# Altium integrated library HyTechDevices.Library.IntLib: 384 symbols (part 3 of 4)
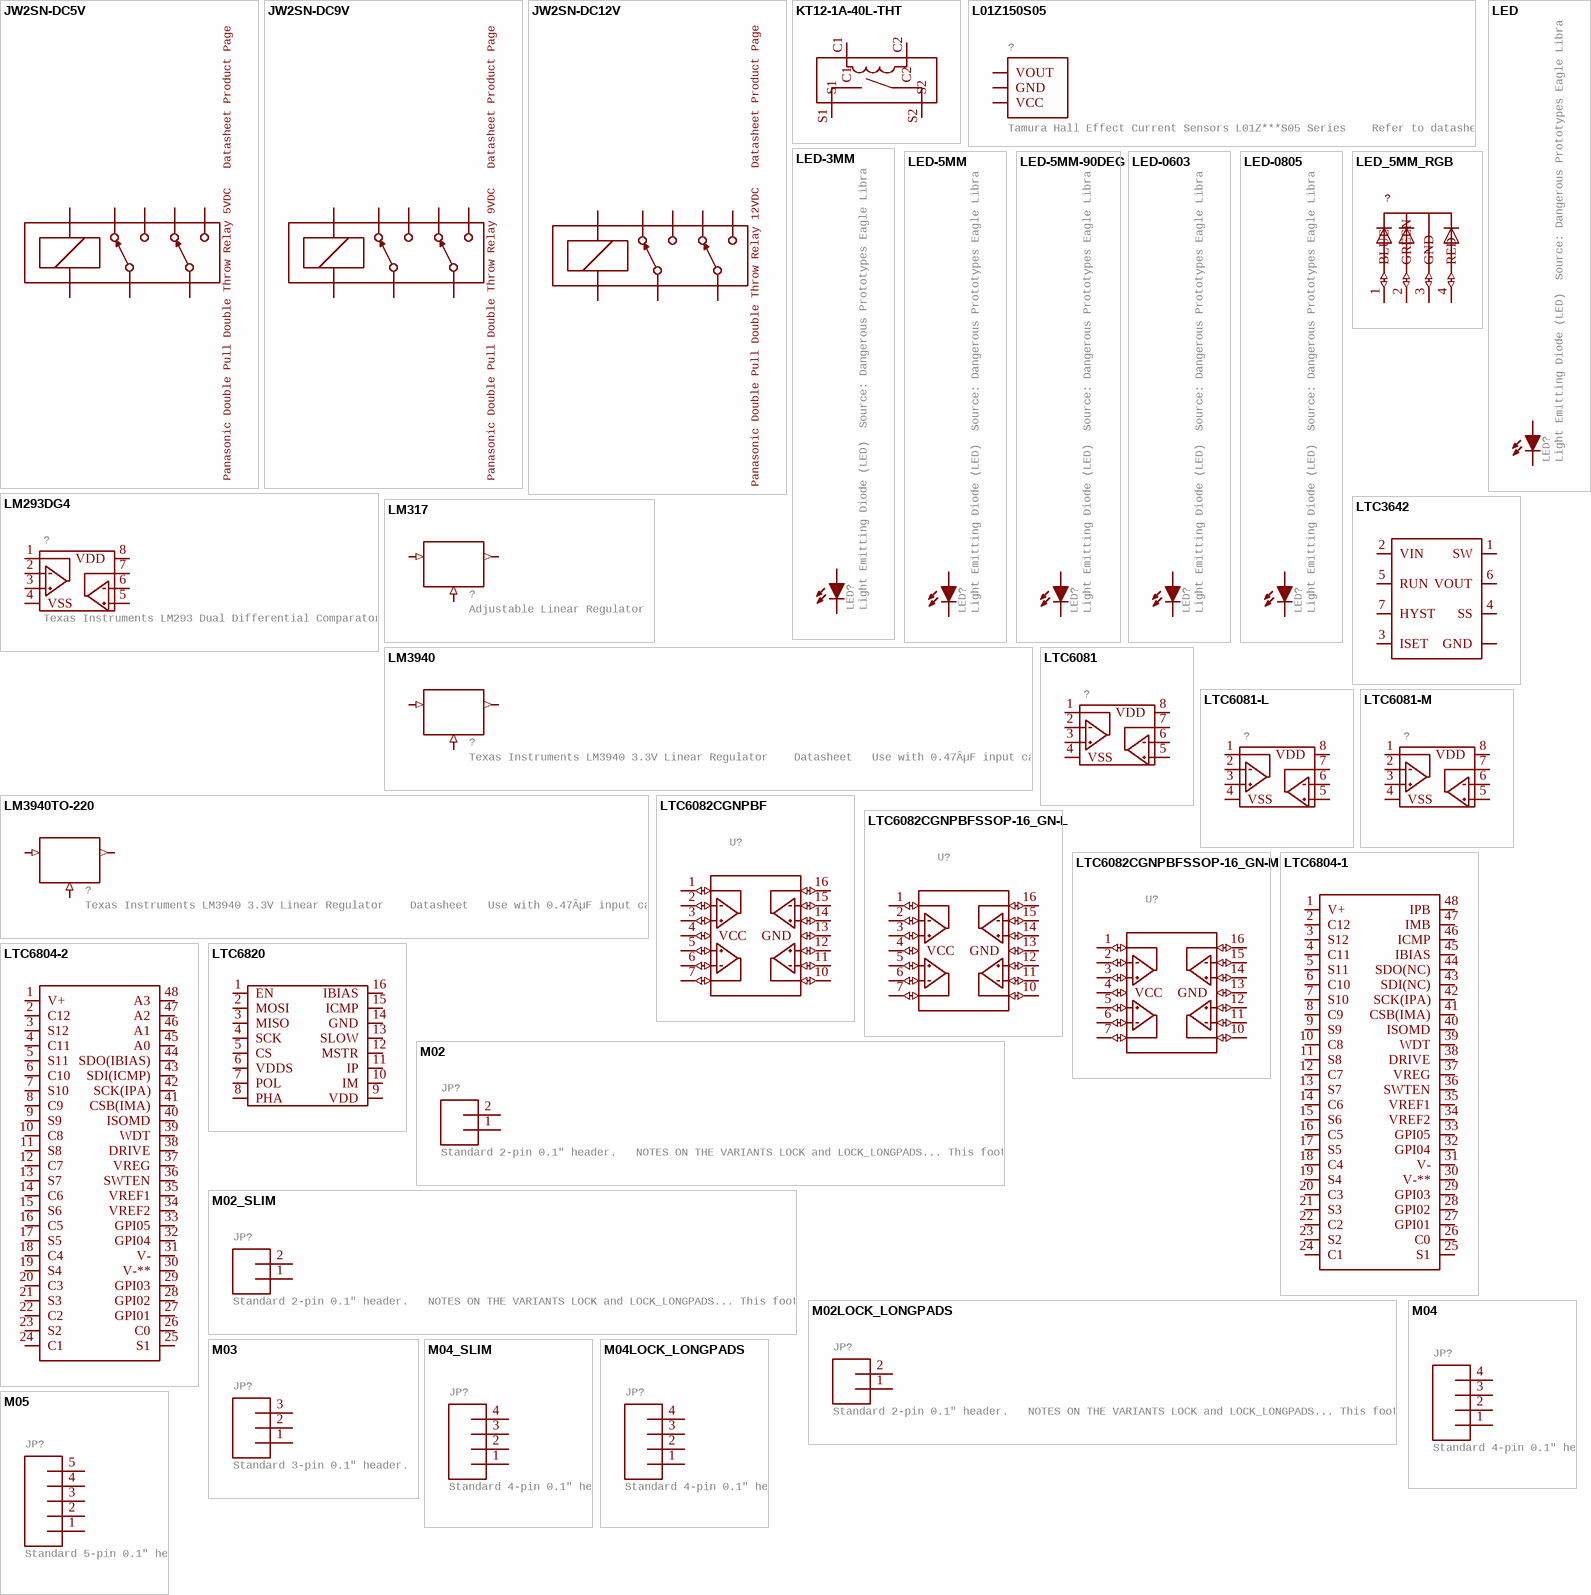
[diagram p23: symbols JW2SN-DC5V to M05]

## LED-0603
designator LED?, comment Light Emitting Diode (LED)  Source: Dangerous Prototypes Eagle Library
DeviceName: -0603; GateName_1: LED; SymbolName_1: LED; LibraryName: HyTechDevices; DeviceSetName: LED; Package: LED-603
footprint LED-603
pins: A, C

## LED-0805
designator LED?, comment Light Emitting Diode (LED)  Source: Dangerous Prototypes Eagle Library
DeviceName: -0805; GateName_1: LED; SymbolName_1: LED; LibraryName: HyTechDevices; DeviceSetName: LED; Package: LED-805
footprint LED-805
pins: A, C

## LED_5MM_RGB
designator ?, comment Source: Adafruit  (value not drawn)
GateName_1: G$1; SymbolName_1: LED_RGB; DeviceSetName: LED_5MM_RGB; LibraryName: HyTechDevices; Package: LED_5MM_RGB
footprint LED_5MM_RGB
pins: 1 BLUE (io), 2 GREEN (io), 3 GND (io), 4 RED (io)

## LM293DG4
designator ?, comment Texas Instruments LM293 Dual Differential Comparator
GateName_1: G$1; SymbolName_1: OPAMP_2_CHANNEL; DeviceName: DG4; LibraryName: HyTechDevices; DeviceSetName: LM293; Package: SOIC-08
footprint SOIC-08
pins: 1 VOUTA, 2 VINA-, 3 VINA+, 4 VSS, 5 VINB+, 6 VINB-, 7 VOUTB, 8 VDD

## LM317
designator ?, comment Adjustable Linear Regulator
GateName_1: G$1; SymbolName_1: LM317; LibraryName: HyTechDevices; DeviceSetName: LM317; Package: TO-220
footprint TO-220
pins: 1 ADJ (in), 2 OUT (out), 3 IN (in)

## LM3940
designator ?, comment Texas Instruments LM3940 3.3V Linear Regulator    Datasheet   Use with 0.47ÂµF input capacitor and 33ÂµF output capacitor.
GateName_1: G$1; SymbolName_1: VOLTAGE_REGULATOR; LibraryName: HyTechDevices; DeviceSetName: LM3940; Package: SOT223
footprint SOT223
pins: 1 IN (in), 2 4 GND (in), 3 OUT (out)

## LM3940TO-220
designator ?, comment Texas Instruments LM3940 3.3V Linear Regulator    Datasheet   Use with 0.47ÂµF input capacitor and 33ÂµF output capacitor.
GateName_1: G$1; SymbolName_1: VOLTAGE_REGULATOR; DeviceName: TO-220; LibraryName: HyTechDevices; DeviceSetName: LM3940; Package: TO-220
footprint TO-220
pins: 1 IN (in), 2 GND (in), 3 OUT (out)

## LTC3642
designator ?, comment Linear Technology High Efficiency Step-Down Converter  Input Voltage Range: 4.5V - 45V  Output Voltage: 5V (fixed)  Output Current: 50 mA (max)  Datasheet  (value not drawn)
GateName_1: G$1; SymbolName_1: LTC3642; LibraryName: HyTechDevices; DeviceSetName: LTC3642; Package: MS8E
footprint MS8E
pins: 1 SW (io), 2 VIN (io), 3 ISET (io), 4 SS (io), 5 RUN (io), 6 VOUT (io), 7 HYST (io), 8 PAD GND (io)

## LTC6081
designator ?
GateName_1: G$1; SymbolName_1: OPAMP_2_CHANNEL; DeviceSetName: LTC6081; LibraryName: HyTechDevices; Package: MSOP-8_MS
footprint MSOP-8_MS
pins: 1 VOUTA, 2 VINA-, 3 VINA+, 4 VSS, 5 VINB+, 6 VINB-, 7 VOUTB, 8 VDD

## LTC6081-L
designator ?
GateName_1: G$1; SymbolName_1: OPAMP_2_CHANNEL; DeviceName: -L; DeviceSetName: LTC6081; LibraryName: HyTechDevices; Package: MSOP-8_MS-L
footprint MSOP-8_MS-L
pins: 1 VOUTA, 2 VINA-, 3 VINA+, 4 VSS, 5 VINB+, 6 VINB-, 7 VOUTB, 8 VDD

## LTC6081-M
designator ?
GateName_1: G$1; SymbolName_1: OPAMP_2_CHANNEL; DeviceName: -M; DeviceSetName: LTC6081; LibraryName: HyTechDevices; Package: MSOP-8_MS-M
footprint MSOP-8_MS-M
pins: 1 VOUTA, 2 VINA-, 3 VINA+, 4 VSS, 5 VINB+, 6 VINB-, 7 VOUTB, 8 VDD

## LTC6082CGNPBF
designator U?
MANUFACTURER_PART_NUMBER: LTC6082CGN#PBF; GateName_1: G$1; SymbolName_1: LTC6082; DeviceSetName: LTC6082CGNPBF; VENDOR: Linear Technology; LibraryName: HyTechDevices; Package: SSOP-16_GN
footprint SSOP-16_GN
pins: 1 OUTA (io), 2 -INA (io), 3 +INA (io), 4 VCC (io), 5 +INB (io), 6 -INB (io), 7 OUTB (io), 10 OUTC (io), 11 -INC (io), 12 +INC (io), 13 GND (io), 14 +IND (io), 15 -IND (io), 16 OUTD (io)

## LTC6082CGNPBFSSOP-16_GN-L
designator U?
MANUFACTURER_PART_NUMBER: LTC6082CGN#PBF; GateName_1: G$1; SymbolName_1: LTC6082; DeviceName: SSOP-16_GN-L; DeviceSetName: LTC6082CGNPBF; VENDOR: Linear Technology; LibraryName: HyTechDevices; Package: SSOP-16_GN-L
footprint SSOP-16_GN-L
pins: 1 OUTA (io), 2 -INA (io), 3 +INA (io), 4 VCC (io), 5 +INB (io), 6 -INB (io), 7 OUTB (io), 10 OUTC (io), 11 -INC (io), 12 +INC (io), 13 GND (io), 14 +IND (io), 15 -IND (io), 16 OUTD (io)

## LTC6082CGNPBFSSOP-16_GN-M
designator U?
MANUFACTURER_PART_NUMBER: LTC6082CGN#PBF; GateName_1: G$1; SymbolName_1: LTC6082; DeviceName: SSOP-16_GN-M; DeviceSetName: LTC6082CGNPBF; VENDOR: Linear Technology; LibraryName: HyTechDevices; Package: SSOP-16_GN-M
footprint SSOP-16_GN-M
pins: 1 OUTA (io), 2 -INA (io), 3 +INA (io), 4 VCC (io), 5 +INB (io), 6 -INB (io), 7 OUTB (io), 10 OUTC (io), 11 -INC (io), 12 +INC (io), 13 GND (io), 14 +IND (io), 15 -IND (io), 16 OUTD (io)

## LTC6804-1
designator ?
GateName_1: G$1; SymbolName_1: LTC6804-1; LibraryName: HyTechDevices; DeviceSetName: LTC6804-1; Package: LTC6804
footprint LTC6804
pins: 1 V+ (io), 2 C12 (io), 3 S12 (io), 4 C11 (io), 5 S11 (io), 6 C10 (io), 7 S10 (io), 8 C9 (io), 9 S9 (io), 10 C8 (io), 11 S8 (io), 12 C7 (io), 13 S7 (io), 14 C6 (io), 15 S6 (io), 16 C5 (io), 17 S5 (io), 18 C4 (io), 19 S4 (io), 20 C3 (io), 21 S3 (io), 22 C2 (io), 23 S2 (io), 24 C1 (io), 25 S1 (io), 26 C0 (io), 27 GPI01 (io), 28 GPI02 (io), 29 GPI03 (io), 30 V-** (io), 31 V- (io), 32 GPI04 (io), 33 GPI05 (io), 34 VREF2 (io), 35 VREF1 (io), 36 SWTEN (io), 37 VREG (io), 38 DRIVE (io), 39 WDT (io), 40 ISOMD (io), 41 CSB(IMA) (io), 42 SCK(IPA) (io), 43 SDI(NC) (io), 44 SDO(NC) (io), 45 IBIAS (io), 46 ICMP (io), 47 IMB (io), 48 IPB (io)

## LTC6804-2
designator ?, comment Linear Technology Multicell Battery Stack Monitor  Variant 2: Addressable/Multi-Drop Configuration  Datasheet  (value not drawn)
GateName_1: G$1; SymbolName_1: LTC6804-2; LibraryName: HyTechDevices; DeviceSetName: LTC6804-2; Package: LTC6804
footprint LTC6804
pins: 1 V+ (io), 2 C12 (io), 3 S12 (io), 4 C11 (io), 5 S11 (io), 6 C10 (io), 7 S10 (io), 8 C9 (io), 9 S9 (io), 10 C8 (io), 11 S8 (io), 12 C7 (io), 13 S7 (io), 14 C6 (io), 15 S6 (io), 16 C5 (io), 17 S5 (io), 18 C4 (io), 19 S4 (io), 20 C3 (io), 21 S3 (io), 22 C2 (io), 23 S2 (io), 24 C1 (io), 25 S1 (io), 26 C0 (io), 27 GPI01 (io), 28 GPI02 (io), 29 GPI03 (io), 30 V-** (io), 31 V- (io), 32 GPI04 (io), 33 GPI05 (io), 34 VREF2 (io), 35 VREF1 (io), 36 SWTEN (io), 37 VREG (io), 38 DRIVE (io), 39 WDT (io), 40 ISOMD (io), 41 CSB(IMA) (io), 42 SCK(IPA) (io), 43 SDI(ICMP) (io), 44 SDO(IBIAS) (io), 45 A0 (io), 46 A1 (io), 47 A2 (io), 48 A3 (io)

## LTC6820
designator ?, comment Linear Technology isoSPI Isolated Communications Interface  Datasheet  (value not drawn)
GateName_1: G$1; SymbolName_1: LTC6820; LibraryName: HyTechDevices; DeviceSetName: LTC6820; Package: MSOP-16
footprint MSOP-16
pins: 1 EN (io), 2 MOSI (io), 3 MISO (io), 4 SCK (io), 5 CS (io), 6 VDDS (io), 7 POL (io), 8 PHA (io), 9 VDD (io), 10 IM (io), 11 IP (io), 12 MSTR (io), 13 SLOW (io), 14 GND (io), 15 ICMP (io), 16 IBIAS (io)

## M02
designator JP?, comment Standard 2-pin 0.1" header.   NOTES ON THE VARIANTS LOCK and LOCK_LONGPADS... This footprint was designed to help hold the alignment of a through-hole component (i.e.  6-pin header) while soldering it into place. You may notice that each hole has been shifted either up or down by 0.005 of an inch from it's more standard position (which is a perfectly straight line).  This slight alteration caused the pins (the squares in the middle) to touch the edges of the holes.  Because they are alternating, it causes a "brace" to hold the component in place.  0.005 has proven to be the perfect amount of "off-center" position when using our standard breakaway headers. Although looks a little odd when you look at the bare footprint, once you have a header in there, the alteration is very hard to notice.  Also,if you push a header all the way into place, it is covered up entirely on the bottom side.  This idea of altering the position of holes to aid alignment will be further integrated into the Sparkfun Library for other footprints.  It can help hold any component with 3 or more connection pins.   Note: The Sparkfun version includes many other packages including surface mount that may be of future interest.   Source: Sparkfun
GateName_1: G$1; SymbolName_1: M02; LibraryName: HyTechDevices; DeviceSetName: M02; Package: 1X02
footprint 1X02
pins: 1, 2

## M02_SLIM
designator JP?, comment Standard 2-pin 0.1" header.   NOTES ON THE VARIANTS LOCK and LOCK_LONGPADS... This footprint was designed to help hold the alignment of a through-hole component (i.e.  6-pin header) while soldering it into place. You may notice that each hole has been shifted either up or down by 0.005 of an inch from it's more standard position (which is a perfectly straight line).  This slight alteration caused the pins (the squares in the middle) to touch the edges of the holes.  Because they are alternating, it causes a "brace" to hold the component in place.  0.005 has proven to be the perfect amount of "off-center" position when using our standard breakaway headers. Although looks a little odd when you look at the bare footprint, once you have a header in there, the alteration is very hard to notice.  Also,if you push a header all the way into place, it is covered up entirely on the bottom side.  This idea of altering the position of holes to aid alignment will be further integrated into the Sparkfun Library for other footprints.  It can help hold any component with 3 or more connection pins.   Note: The Sparkfun version includes many other packages including surface mount that may be of future interest.   Source: Sparkfun
GateName_1: G$1; SymbolName_1: M02; DeviceName: _SLIM; LibraryName: HyTechDevices; DeviceSetName: M02; Package: 1X02_SLIM
footprint 1X02_SLIM
pins: 1, 2

## M02LOCK_LONGPADS
designator JP?, comment Standard 2-pin 0.1" header.   NOTES ON THE VARIANTS LOCK and LOCK_LONGPADS... This footprint was designed to help hold the alignment of a through-hole component (i.e.  6-pin header) while soldering it into place. You may notice that each hole has been shifted either up or down by 0.005 of an inch from it's more standard position (which is a perfectly straight line).  This slight alteration caused the pins (the squares in the middle) to touch the edges of the holes.  Because they are alternating, it causes a "brace" to hold the component in place.  0.005 has proven to be the perfect amount of "off-center" position when using our standard breakaway headers. Although looks a little odd when you look at the bare footprint, once you have a header in there, the alteration is very hard to notice.  Also,if you push a header all the way into place, it is covered up entirely on the bottom side.  This idea of altering the position of holes to aid alignment will be further integrated into the Sparkfun Library for other footprints.  It can help hold any component with 3 or more connection pins.   Note: The Sparkfun version includes many other packages including surface mount that may be of future interest.   Source: Sparkfun
GateName_1: G$1; SymbolName_1: M02; DeviceName: LOCK_LONGPADS; LibraryName: HyTechDevices; DeviceSetName: M02; Package: 1X02_LOCK_LONGPADS
footprint 1X02_LOCK_LONGPADS
pins: 1, 2

## M03
designator JP?, comment Standard 3-pin 0.1" header.
GateName_1: G$1; SymbolName_1: M03; LibraryName: HyTechDevices; DeviceSetName: M03; Package: 1X03
footprint 1X03
pins: 1, 2, 3

## M04
designator JP?, comment Standard 4-pin 0.1" header.   NOTES ON THE VARIANTS LOCK and LOCK_LONGPADS... This footprint was designed to help hold the alignment of a through-hole component (i.e.  6-pin header) while soldering it into place. You may notice that each hole has been shifted either up or down by 0.005 of an inch from it's more standard position (which is a perfectly straight line).  This slight alteration caused the pins (the squares in the middle) to touch the edges of the holes.  Because they are alternating, it causes a "brace" to hold the component in place.  0.005 has proven to be the perfect amount of "off-center" position when using our standard breakaway headers. Although looks a little odd when you look at the bare footprint, once you have a header in there, the alteration is very hard to notice.  Also,if you push a header all the way into place, it is covered up entirely on the bottom side.  This idea of altering the position of holes to aid alignment will be further integrated into the Sparkfun Library for other footprints.  It can help hold any component with 3 or more connection pins.   Note: The Sparkfun version includes many other packages including surface mount that may be of future interest.   Source: Sparkfun
GateName_1: G$1; SymbolName_1: M04; LibraryName: HyTechDevices; DeviceSetName: M04; Package: 1X04
footprint 1X04
pins: 1, 2, 3, 4

## M04_SLIM
designator JP?, comment Standard 4-pin 0.1" header.   NOTES ON THE VARIANTS LOCK and LOCK_LONGPADS... This footprint was designed to help hold the alignment of a through-hole component (i.e.  6-pin header) while soldering it into place. You may notice that each hole has been shifted either up or down by 0.005 of an inch from it's more standard position (which is a perfectly straight line).  This slight alteration caused the pins (the squares in the middle) to touch the edges of the holes.  Because they are alternating, it causes a "brace" to hold the component in place.  0.005 has proven to be the perfect amount of "off-center" position when using our standard breakaway headers. Although looks a little odd when you look at the bare footprint, once you have a header in there, the alteration is very hard to notice.  Also,if you push a header all the way into place, it is covered up entirely on the bottom side.  This idea of altering the position of holes to aid alignment will be further integrated into the Sparkfun Library for other footprints.  It can help hold any component with 3 or more connection pins.   Note: The Sparkfun version includes many other packages including surface mount that may be of future interest.   Source: Sparkfun
GateName_1: G$1; SymbolName_1: M04; DeviceName: _SLIM; LibraryName: HyTechDevices; DeviceSetName: M04; Package: 1X04_SLIM
footprint 1X04_SLIM
pins: 1, 2, 3, 4

## M04LOCK_LONGPADS
designator JP?, comment Standard 4-pin 0.1" header.   NOTES ON THE VARIANTS LOCK and LOCK_LONGPADS... This footprint was designed to help hold the alignment of a through-hole component (i.e.  6-pin header) while soldering it into place. You may notice that each hole has been shifted either up or down by 0.005 of an inch from it's more standard position (which is a perfectly straight line).  This slight alteration caused the pins (the squares in the middle) to touch the edges of the holes.  Because they are alternating, it causes a "brace" to hold the component in place.  0.005 has proven to be the perfect amount of "off-center" position when using our standard breakaway headers. Although looks a little odd when you look at the bare footprint, once you have a header in there, the alteration is very hard to notice.  Also,if you push a header all the way into place, it is covered up entirely on the bottom side.  This idea of altering the position of holes to aid alignment will be further integrated into the Sparkfun Library for other footprints.  It can help hold any component with 3 or more connection pins.   Note: The Sparkfun version includes many other packages including surface mount that may be of future interest.   Source: Sparkfun
GateName_1: G$1; SymbolName_1: M04; DeviceName: LOCK_LONGPADS; LibraryName: HyTechDevices; DeviceSetName: M04; Package: 1X04_LOCK_LONGPADS
footprint 1X04_LOCK_LONGPADS
pins: 1, 2, 3, 4

## M05
designator JP?, comment Standard 5-pin 0.1" header.   NOTES ON THE VARIANTS LOCK and LOCK_LONGPADS... This footprint was designed to help hold the alignment of a through-hole component (i.e.  5-pin header) while soldering it into place. You may notice that each hole has been shifted either up or down by 0.005 of an inch from it's more standard position (which is a perfectly straight line).  This slight alteration caused the pins (the squares in the middle) to touch the edges of the holes.  Because they are alternating, it causes a "brace" to hold the component in place.  0.005 has proven to be the perfect amount of "off-center" position when using our standard breakaway headers. Although looks a little odd when you look at the bare footprint, once you have a header in there, the alteration is very hard to notice.  Also,if you push a header all the way into place, it is covered up entirely on the bottom side.  This idea of altering the position of holes to aid alignment will be further integrated into the Sparkfun Library for other footprints.  It can help hold any component with 3 or more connection pins.   Note: The Sparkfun version includes many other packages including surface mount that may be of future interest.   Source: Sparkfun
GateName_1: G$1; SymbolName_1: M05; LibraryName: HyTechDevices; DeviceSetName: M05; Package: 1X05
footprint 1X05
pins: 1, 2, 3, 4, 5

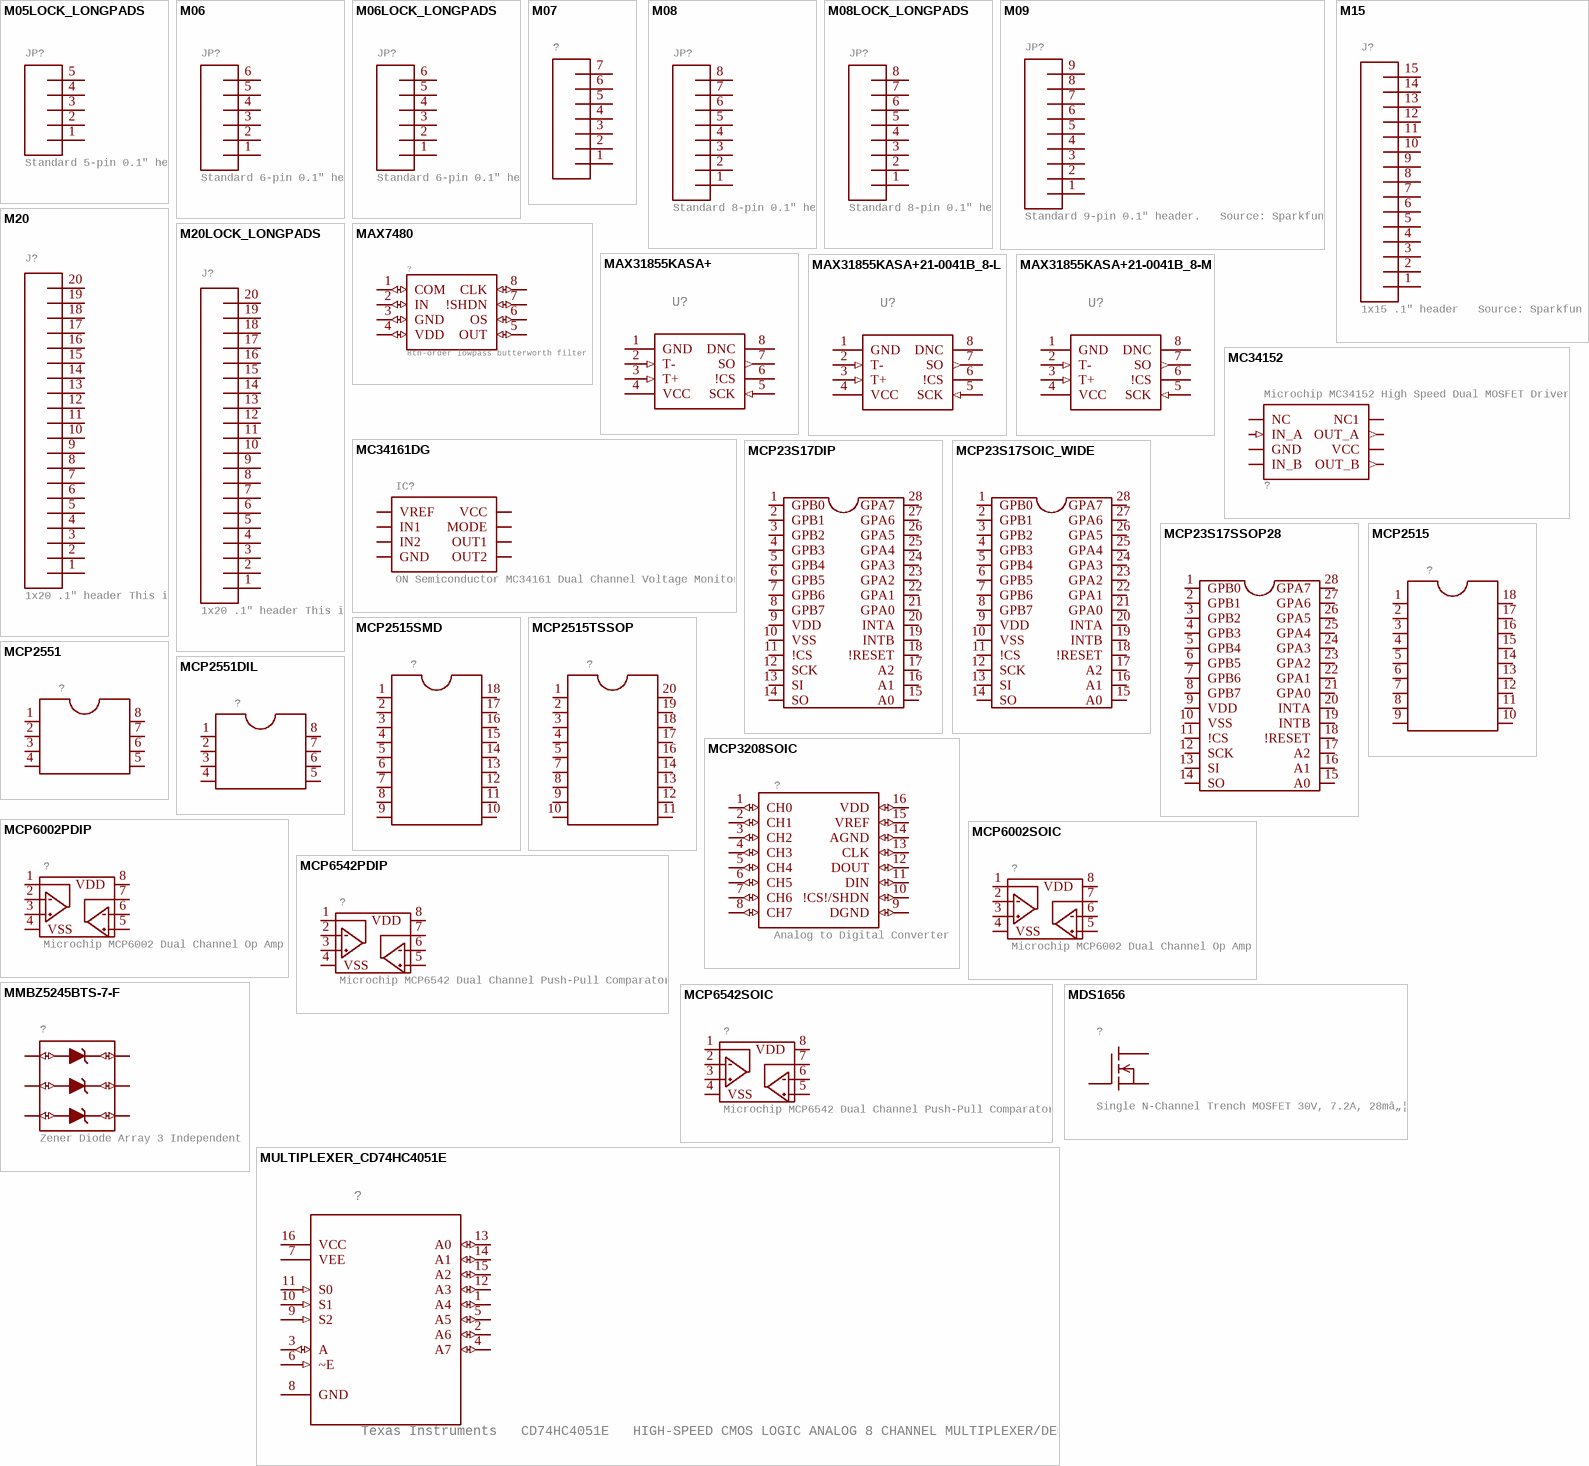
[diagram p17: symbols M05LOCK_LONGPADS to MULTIPLEXER_CD74HC4051E]

## M05LOCK_LONGPADS
designator JP?, comment Standard 5-pin 0.1" header.   NOTES ON THE VARIANTS LOCK and LOCK_LONGPADS... This footprint was designed to help hold the alignment of a through-hole component (i.e.  5-pin header) while soldering it into place. You may notice that each hole has been shifted either up or down by 0.005 of an inch from it's more standard position (which is a perfectly straight line).  This slight alteration caused the pins (the squares in the middle) to touch the edges of the holes.  Because they are alternating, it causes a "brace" to hold the component in place.  0.005 has proven to be the perfect amount of "off-center" position when using our standard breakaway headers. Although looks a little odd when you look at the bare footprint, once you have a header in there, the alteration is very hard to notice.  Also,if you push a header all the way into place, it is covered up entirely on the bottom side.  This idea of altering the position of holes to aid alignment will be further integrated into the Sparkfun Library for other footprints.  It can help hold any component with 3 or more connection pins.   Note: The Sparkfun version includes many other packages including surface mount that may be of future interest.   Source: Sparkfun
GateName_1: G$1; SymbolName_1: M05; DeviceName: LOCK_LONGPADS; LibraryName: HyTechDevices; DeviceSetName: M05; Package: 1X05_LOCK_LONGPADS
footprint 1X05_LOCK_LONGPADS
pins: 1, 2, 3, 4, 5

## M06
designator JP?, comment Standard 6-pin 0.1" header.   NOTES ON THE VARIANTS LOCK and LOCK_LONGPADS... This footprint was designed to help hold the alignment of a through-hole component (i.e.  6-pin header) while soldering it into place. You may notice that each hole has been shifted either up or down by 0.005 of an inch from it's more standard position (which is a perfectly straight line).  This slight alteration caused the pins (the squares in the middle) to touch the edges of the holes.  Because they are alternating, it causes a "brace" to hold the component in place.  0.005 has proven to be the perfect amount of "off-center" position when using our standard breakaway headers. Although looks a little odd when you look at the bare footprint, once you have a header in there, the alteration is very hard to notice.  Also,if you push a header all the way into place, it is covered up entirely on the bottom side.  This idea of altering the position of holes to aid alignment will be further integrated into the Sparkfun Library for other footprints.  It can help hold any component with 3 or more connection pins.   Note: The Sparkfun version includes many other packages including surface mount that may be of future interest.   Source: Sparkfun
GateName_1: G$1; SymbolName_1: M06; LibraryName: HyTechDevices; DeviceSetName: M06; Package: 1X06
footprint 1X06
pins: 1, 2, 3, 4, 5, 6

## M06LOCK_LONGPADS
designator JP?, comment Standard 6-pin 0.1" header.   NOTES ON THE VARIANTS LOCK and LOCK_LONGPADS... This footprint was designed to help hold the alignment of a through-hole component (i.e.  6-pin header) while soldering it into place. You may notice that each hole has been shifted either up or down by 0.005 of an inch from it's more standard position (which is a perfectly straight line).  This slight alteration caused the pins (the squares in the middle) to touch the edges of the holes.  Because they are alternating, it causes a "brace" to hold the component in place.  0.005 has proven to be the perfect amount of "off-center" position when using our standard breakaway headers. Although looks a little odd when you look at the bare footprint, once you have a header in there, the alteration is very hard to notice.  Also,if you push a header all the way into place, it is covered up entirely on the bottom side.  This idea of altering the position of holes to aid alignment will be further integrated into the Sparkfun Library for other footprints.  It can help hold any component with 3 or more connection pins.   Note: The Sparkfun version includes many other packages including surface mount that may be of future interest.   Source: Sparkfun
GateName_1: G$1; SymbolName_1: M06; DeviceName: LOCK_LONGPADS; LibraryName: HyTechDevices; DeviceSetName: M06; Package: 1X06_LOCK_LONGPADS
footprint 1X06_LOCK_LONGPADS
pins: 1, 2, 3, 4, 5, 6

## M07
designator ?
GateName_1: G$1; SymbolName_1: M07; LibraryName: HyTechDevices; DeviceSetName: M07; Package: 1X07
footprint 1X07
pins: 1, 2, 3, 4, 5, 6, 7

## M08
designator JP?, comment Standard 8-pin 0.1" header.   NOTES ON THE VARIANTS LOCK and LOCK_LONGPADS... This footprint was designed to help hold the alignment of a through-hole component (i.e.  6-pin header) while soldering it into place. You may notice that each hole has been shifted either up or down by 0.005 of an inch from it's more standard position (which is a perfectly straight line).  This slight alteration caused the pins (the squares in the middle) to touch the edges of the holes.  Because they are alternating, it causes a "brace" to hold the component in place.  0.005 has proven to be the perfect amount of "off-center" position when using our standard breakaway headers. Although looks a little odd when you look at the bare footprint, once you have a header in there, the alteration is very hard to notice.  Also,if you push a header all the way into place, it is covered up entirely on the bottom side.  This idea of altering the position of holes to aid alignment will be further integrated into the Sparkfun Library for other footprints.  It can help hold any component with 3 or more connection pins.   Note: The Sparkfun version includes many other packages including surface mount that may be of future interest.   Source: Sparkfun
GateName_1: G$1; SymbolName_1: M08; LibraryName: HyTechDevices; DeviceSetName: M08; Package: 1X08
footprint 1X08
pins: 1, 2, 3, 4, 5, 6, 7, 8

## M08LOCK_LONGPADS
designator JP?, comment Standard 8-pin 0.1" header.   NOTES ON THE VARIANTS LOCK and LOCK_LONGPADS... This footprint was designed to help hold the alignment of a through-hole component (i.e.  6-pin header) while soldering it into place. You may notice that each hole has been shifted either up or down by 0.005 of an inch from it's more standard position (which is a perfectly straight line).  This slight alteration caused the pins (the squares in the middle) to touch the edges of the holes.  Because they are alternating, it causes a "brace" to hold the component in place.  0.005 has proven to be the perfect amount of "off-center" position when using our standard breakaway headers. Although looks a little odd when you look at the bare footprint, once you have a header in there, the alteration is very hard to notice.  Also,if you push a header all the way into place, it is covered up entirely on the bottom side.  This idea of altering the position of holes to aid alignment will be further integrated into the Sparkfun Library for other footprints.  It can help hold any component with 3 or more connection pins.   Note: The Sparkfun version includes many other packages including surface mount that may be of future interest.   Source: Sparkfun
GateName_1: G$1; SymbolName_1: M08; DeviceName: LOCK_LONGPADS; LibraryName: HyTechDevices; DeviceSetName: M08; Package: 1X08_LOCK_LONGPADS
footprint 1X08_LOCK_LONGPADS
pins: 1, 2, 3, 4, 5, 6, 7, 8

## M09
designator JP?, comment Standard 9-pin 0.1" header.   Source: Sparkfun
GateName_1: G$1; SymbolName_1: M09; LibraryName: HyTechDevices; DeviceSetName: M09; Package: 1X09
footprint 1X09
pins: 1, 2, 3, 4, 5, 6, 7, 8, 9

## M15
designator J?, comment 1x15 .1" header   Source: Sparkfun
GateName_1: G$1; SymbolName_1: M15; LibraryName: HyTechDevices; DeviceSetName: M15; Package: 1X15
footprint 1X15
pins: 1, 2, 3, 4, 5, 6, 7, 8, 9, 10, 11, 12, 13, 14, 15

## M20
designator J?, comment 1x20 .1" header This is just like the LOCK variant in that the holes are staggared by 5 mil, but except for the last two holes.  They are not altered from the "standard" footprint layout.  This is used for a special purpose on the layout of our Graphic LCD Backpack.  Make sure you want to use this device before selecting it for you project!   Source: Sparkfun
GateName_1: G$1; SymbolName_1: M20; LibraryName: HyTechDevices; DeviceSetName: M20; Package: 1X20
footprint 1X20
pins: 1, 2, 3, 4, 5, 6, 7, 8, 9, 10, 11, 12, 13, 14, 15, 16, 17, 18, 19, 20

## M20LOCK_LONGPADS
designator J?, comment 1x20 .1" header This is just like the LOCK variant in that the holes are staggared by 5 mil, but except for the last two holes.  They are not altered from the "standard" footprint layout.  This is used for a special purpose on the layout of our Graphic LCD Backpack.  Make sure you want to use this device before selecting it for you project!   Source: Sparkfun
GateName_1: G$1; SymbolName_1: M20; DeviceName: LOCK_LONGPADS; LibraryName: HyTechDevices; DeviceSetName: M20; Package: 1X20_LOCK_LONGPADS
footprint 1X20_LOCK_LONGPADS
pins: 1, 2, 3, 4, 5, 6, 7, 8, 9, 10, 11, 12, 13, 14, 15, 16, 17, 18, 19, 20

## MAX7480
designator ?, comment 8th-order lowpass butterworth filter
GateName_1: G$1; SymbolName_1: MAX7480; LibraryName: HyTechDevices; DeviceSetName: MAX7480; Package: SOIC-08
footprint SOIC-08
pins: 1 COM (io), 2 IN (io), 3 GND (io), 4 VDD (io), 5 OUT (io), 6 OS (io), 7 !SHDN (io), 8 CLK (io)

## MAX31855KASA+
designator U?
GateName_1: A; SymbolName_1: MAX31855KASA+; VENDOR: Maxim Integrated Products; LibraryName: HyTechDevices; DeviceSetName: MAX31855KASA+; Package: 21-0041B_8; MANUFACTURER_PART_NUMBER: MAX31855KASA+
footprint 21-0041B_8
pins: 1 GND (power), 2 T- (in), 3 T+ (in), 4 VCC (power), 5 SCK (in), 6 !CS, 7 SO (out), 8 DNC

## MAX31855KASA+21-0041B_8-L
designator U?
GateName_1: A; SymbolName_1: MAX31855KASA+; DeviceName: 21-0041B_8-L; VENDOR: Maxim Integrated Products; LibraryName: HyTechDevices; DeviceSetName: MAX31855KASA+; Package: 21-0041B_8-L; MANUFACTURER_PART_NUMBER: MAX31855KASA+
footprint 21-0041B_8-L
pins: 1 GND (power), 2 T- (in), 3 T+ (in), 4 VCC (power), 5 SCK (in), 6 !CS, 7 SO (out), 8 DNC

## MAX31855KASA+21-0041B_8-M
designator U?
GateName_1: A; SymbolName_1: MAX31855KASA+; DeviceName: 21-0041B_8-M; VENDOR: Maxim Integrated Products; LibraryName: HyTechDevices; DeviceSetName: MAX31855KASA+; Package: 21-0041B_8-M; MANUFACTURER_PART_NUMBER: MAX31855KASA+
footprint 21-0041B_8-M
pins: 1 GND (power), 2 T- (in), 3 T+ (in), 4 VCC (power), 5 SCK (in), 6 !CS, 7 SO (out), 8 DNC

## MC34152
designator ?, comment Microchip MC34152 High Speed Dual MOSFET Driver
GateName_1: G$1; SymbolName_1: MC34152; LibraryName: HyTechDevices; DeviceSetName: MC34152; Package: SOIC-08
footprint SOIC-08
pins: 1 NC (hiz), 2 IN_A (in), 3 GND (power), 4 IN_B (io), 5 OUT_B (out), 6 VCC (power), 7 OUT_A (out), 8 NC1 (hiz)

## MC34161DG
designator IC?, comment ON Semiconductor MC34161 Dual Channel Voltage Monitor
GateName_1: G$1; SymbolName_1: MC34161DG; LibraryName: HyTechDevices; DeviceSetName: MC34161DG; Package: SOIC-08
footprint SOIC-08
pins: 1 VREF, 2 IN1, 3 IN2, 4 GND, 5 OUT2, 6 OUT1, 7 MODE, 8 VCC

## MCP23S17DIP
designator ?
GateName_1: G$1; SymbolName_1: MCP23S17; DeviceName: DIP; LibraryName: HyTechDevices; DeviceSetName: MCP23S17; Package: DIL28-3
footprint DIL28-3
pins: 1 GPB0, 2 GPB1, 3 GPB2, 4 GPB3, 5 GPB4, 6 GPB5, 7 GPB6, 8 GPB7, 9 VDD, 10 VSS, 11 !CS, 12 SCK, 13 SI (io), 14 SO (io), 15 A0 (io), 16 A1 (io), 17 A2, 18 !RESET, 19 INTB, 20 INTA, 21 GPA0, 22 GPA1, 23 GPA2, 24 GPA3, 25 GPA4, 26 GPA5, 27 GPA6, 28 GPA7

## MCP23S17SOIC_WIDE
designator ?
GateName_1: G$1; SymbolName_1: MCP23S17; DeviceName: SOIC_WIDE; LibraryName: HyTechDevices; DeviceSetName: MCP23S17; Package: SOIC-28W
footprint SOIC-28W
pins: 1 GPB0, 2 GPB1, 3 GPB2, 4 GPB3, 5 GPB4, 6 GPB5, 7 GPB6, 8 GPB7, 9 VDD, 10 VSS, 11 !CS, 12 SCK, 13 SI (io), 14 SO (io), 15 A0 (io), 16 A1 (io), 17 A2, 18 !RESET, 19 INTB, 20 INTA, 21 GPA0, 22 GPA1, 23 GPA2, 24 GPA3, 25 GPA4, 26 GPA5, 27 GPA6, 28 GPA7

## MCP23S17SSOP28
designator ?
GateName_1: G$1; SymbolName_1: MCP23S17; DeviceName: SSOP28; LibraryName: HyTechDevices; DeviceSetName: MCP23S17; Package: SSOP28
footprint SSOP28
pins: 1 GPB0, 2 GPB1, 3 GPB2, 4 GPB3, 5 GPB4, 6 GPB5, 7 GPB6, 8 GPB7, 9 VDD, 10 VSS, 11 !CS, 12 SCK, 13 SI (io), 14 SO (io), 15 A0 (io), 16 A1 (io), 17 A2, 18 !RESET, 19 INTB, 20 INTA, 21 GPA0, 22 GPA1, 23 GPA2, 24 GPA3, 25 GPA4, 26 GPA5, 27 GPA6, 28 GPA7

## MCP2515
designator ?, comment MCP2515 CAN Controller with SPI Interface   Datasheet  (value not drawn)
GateName_1: G$1; SymbolName_1: MCP2515; LibraryName: HyTechDevices; DeviceSetName: MCP2515; Package: DIL18
footprint DIL18
pins: 1 TXCAN, 2 RXCAN, 3 CLKOUT, 4 TX0RTS, 5 TX1RTS, 6 TX2RTS, 7 OSC2, 8 OSC1, 9 VSS, 10 RX1BF, 11 RX0BF, 12 INT, 13 SCK, 14 SI, 15 SO, 16 CS, 17 RSTN, 18 VDD

## MCP2515SMD
designator ?, comment MCP2515 CAN Controller with SPI Interface   Datasheet  (value not drawn)
GateName_1: G$1; DeviceName: SMD; SymbolName_1: MCP2515; LibraryName: HyTechDevices; DeviceSetName: MCP2515; Package: SOIC-18W
footprint SOIC-18W
pins: 1 TXCAN, 2 RXCAN, 3 CLKOUT, 4 TX0RTS, 5 TX1RTS, 6 TX2RTS, 7 OSC2, 8 OSC1, 9 VSS, 10 RX1BF, 11 RX0BF, 12 INT, 13 SCK, 14 SI, 15 SO, 16 CS, 17 RSTN, 18 VDD

## MCP2515TSSOP
designator ?, comment MCP2515 CAN Controller with SPI Interface   Datasheet  (value not drawn)
GateName_1: G$1; DeviceName: TSSOP; SymbolName_1: MCP2515; LibraryName: HyTechDevices; DeviceSetName: MCP2515; Package: TSSOP-20
footprint TSSOP-20
pins: 1 TXCAN, 2 RXCAN, 3 CLKOUT, 4 TX0RTS, 5 TX1RTS, 7 TX2RTS, 8 OSC2, 9 OSC1, 10 VSS, 11 RX1BF, 12 RX0BF, 13 INT, 14 SCK, 16 SI, 17 SO, 18 CS, 19 RSTN, 20 VDD

## MCP2551
designator ?, comment MCP2551 High-Speed CAN Transceiver   Product Webpage Datasheet  This device is outdated It is replaced by MCP2561.  Comparison Page Product Webpage Datasheet  (value not drawn)
GateName_1: G$1; SymbolName_1: MCP2551; LibraryName: HyTechDevices; DeviceSetName: MCP2551; Package: SOIC-08
footprint SOIC-08
pins: 1, 2, 3, 4, 5, 6, 7, 8

## MCP2551DIL
designator ?, comment MCP2551 High-Speed CAN Transceiver   Product Webpage Datasheet  This device is outdated It is replaced by MCP2561.  Comparison Page Product Webpage Datasheet  (value not drawn)
GateName_1: G$1; DeviceName: DIL; SymbolName_1: MCP2551; LibraryName: HyTechDevices; DeviceSetName: MCP2551; Package: DIL08
footprint DIL08
pins: 1, 2, 3, 4, 5, 6, 7, 8

## MCP3208SOIC
designator ?, comment Analog to Digital Converter
GateName_1: G$1; SymbolName_1: MCP3208; DeviceName: SOIC; LibraryName: HyTechDevices; DeviceSetName: MCP3208; Package: SOIC-16
footprint SOIC-16
pins: 1 CH0 (io), 2 CH1 (io), 3 CH2 (io), 4 CH3 (io), 5 CH4 (io), 6 CH5 (io), 7 CH6 (io), 8 CH7 (io), 9 DGND (io), 10 !CS!/SHDN (io), 11 DIN (io), 12 DOUT (io), 13 CLK (io), 14 AGND (io), 15 VREF (io), 16 VDD (io)

## MCP6002PDIP
designator ?, comment Microchip MCP6002 Dual Channel Op Amp
GateName_1: G$1; SymbolName_1: OPAMP_2_CHANNEL; DeviceName: PDIP; LibraryName: HyTechDevices; DeviceSetName: MCP6002; Package: DIL08
footprint DIL08
pins: 1 VOUTA, 2 VINA-, 3 VINA+, 4 VSS, 5 VINB+, 6 VINB-, 7 VOUTB, 8 VDD

## MCP6002SOIC
designator ?, comment Microchip MCP6002 Dual Channel Op Amp
GateName_1: G$1; SymbolName_1: OPAMP_2_CHANNEL; DeviceName: SOIC; LibraryName: HyTechDevices; DeviceSetName: MCP6002; Package: SOIC-08
footprint SOIC-08
pins: 1 VOUTA, 2 VINA-, 3 VINA+, 4 VSS, 5 VINB+, 6 VINB-, 7 VOUTB, 8 VDD

## MCP6542PDIP
designator ?, comment Microchip MCP6542 Dual Channel Push-Pull Comparator
GateName_1: G$1; SymbolName_1: OPAMP_2_CHANNEL; DeviceName: PDIP; LibraryName: HyTechDevices; DeviceSetName: MCP6542; Package: DIL08
footprint DIL08
pins: 1 VOUTA, 2 VINA-, 3 VINA+, 4 VSS, 5 VINB+, 6 VINB-, 7 VOUTB, 8 VDD

## MCP6542SOIC
designator ?, comment Microchip MCP6542 Dual Channel Push-Pull Comparator
GateName_1: G$1; SymbolName_1: OPAMP_2_CHANNEL; DeviceName: SOIC; LibraryName: HyTechDevices; DeviceSetName: MCP6542; Package: SOIC-08
footprint SOIC-08
pins: 1 VOUTA, 2 VINA-, 3 VINA+, 4 VSS, 5 VINB+, 6 VINB-, 7 VOUTB, 8 VDD

## MDS1656
designator ?, comment Single N-Channel Trench MOSFET 30V, 7.2A, 28mâ„¦
GateName_1: G$1; SymbolName_1: N-CHANNEL_MOSFET; DeviceSetName: MDS1656; LibraryName: HyTechDevices; Package: SOIC-08
footprint SOIC-08
pins: 1 2 3 S, 4 G, 5 6 7 8 D

## MMBZ5245BTS-7-F
designator ?, comment Zener Diode Array 3 Independent
GateName_1: G$1; SymbolName_1: ZENER_ARRAY_3; DeviceSetName: MMBZ5245BTS-7-F; LibraryName: HyTechDevices; Package: SOT363
footprint SOT363
pins: P$1 A1 (io), P$2 A2 (io), P$3 A3 (io), P$4 C1 (io), P$5 C2 (io), P$6 C3 (io)

## MULTIPLEXER_CD74HC4051E
designator ?, comment Texas Instruments   CD74HC4051E   HIGH-SPEED CMOS LOGIC ANALOG 8 CHANNEL MULTIPLEXER/DEMULTIPLEXER
GateName_1: G$1; SymbolName_1: MULTIPLEXER_CD74HC4051E; LibraryName: HyTechDevices; DeviceSetName: MULTIPLEXER_CD74HC4051E; Package: DIL16
footprint DIL16
pins: 1 A4 (io), 2 A6 (io), 3 A (io), 4 A7 (io), 5 A5 (io), 6 ~E (in), 7 VEE (power), 8 GND, 9 S2 (in), 10 S1 (in), 11 S0 (in), 12 A3 (io), 13 A0 (io), 14 A1 (io), 15 A2 (io), 16 VCC (power)

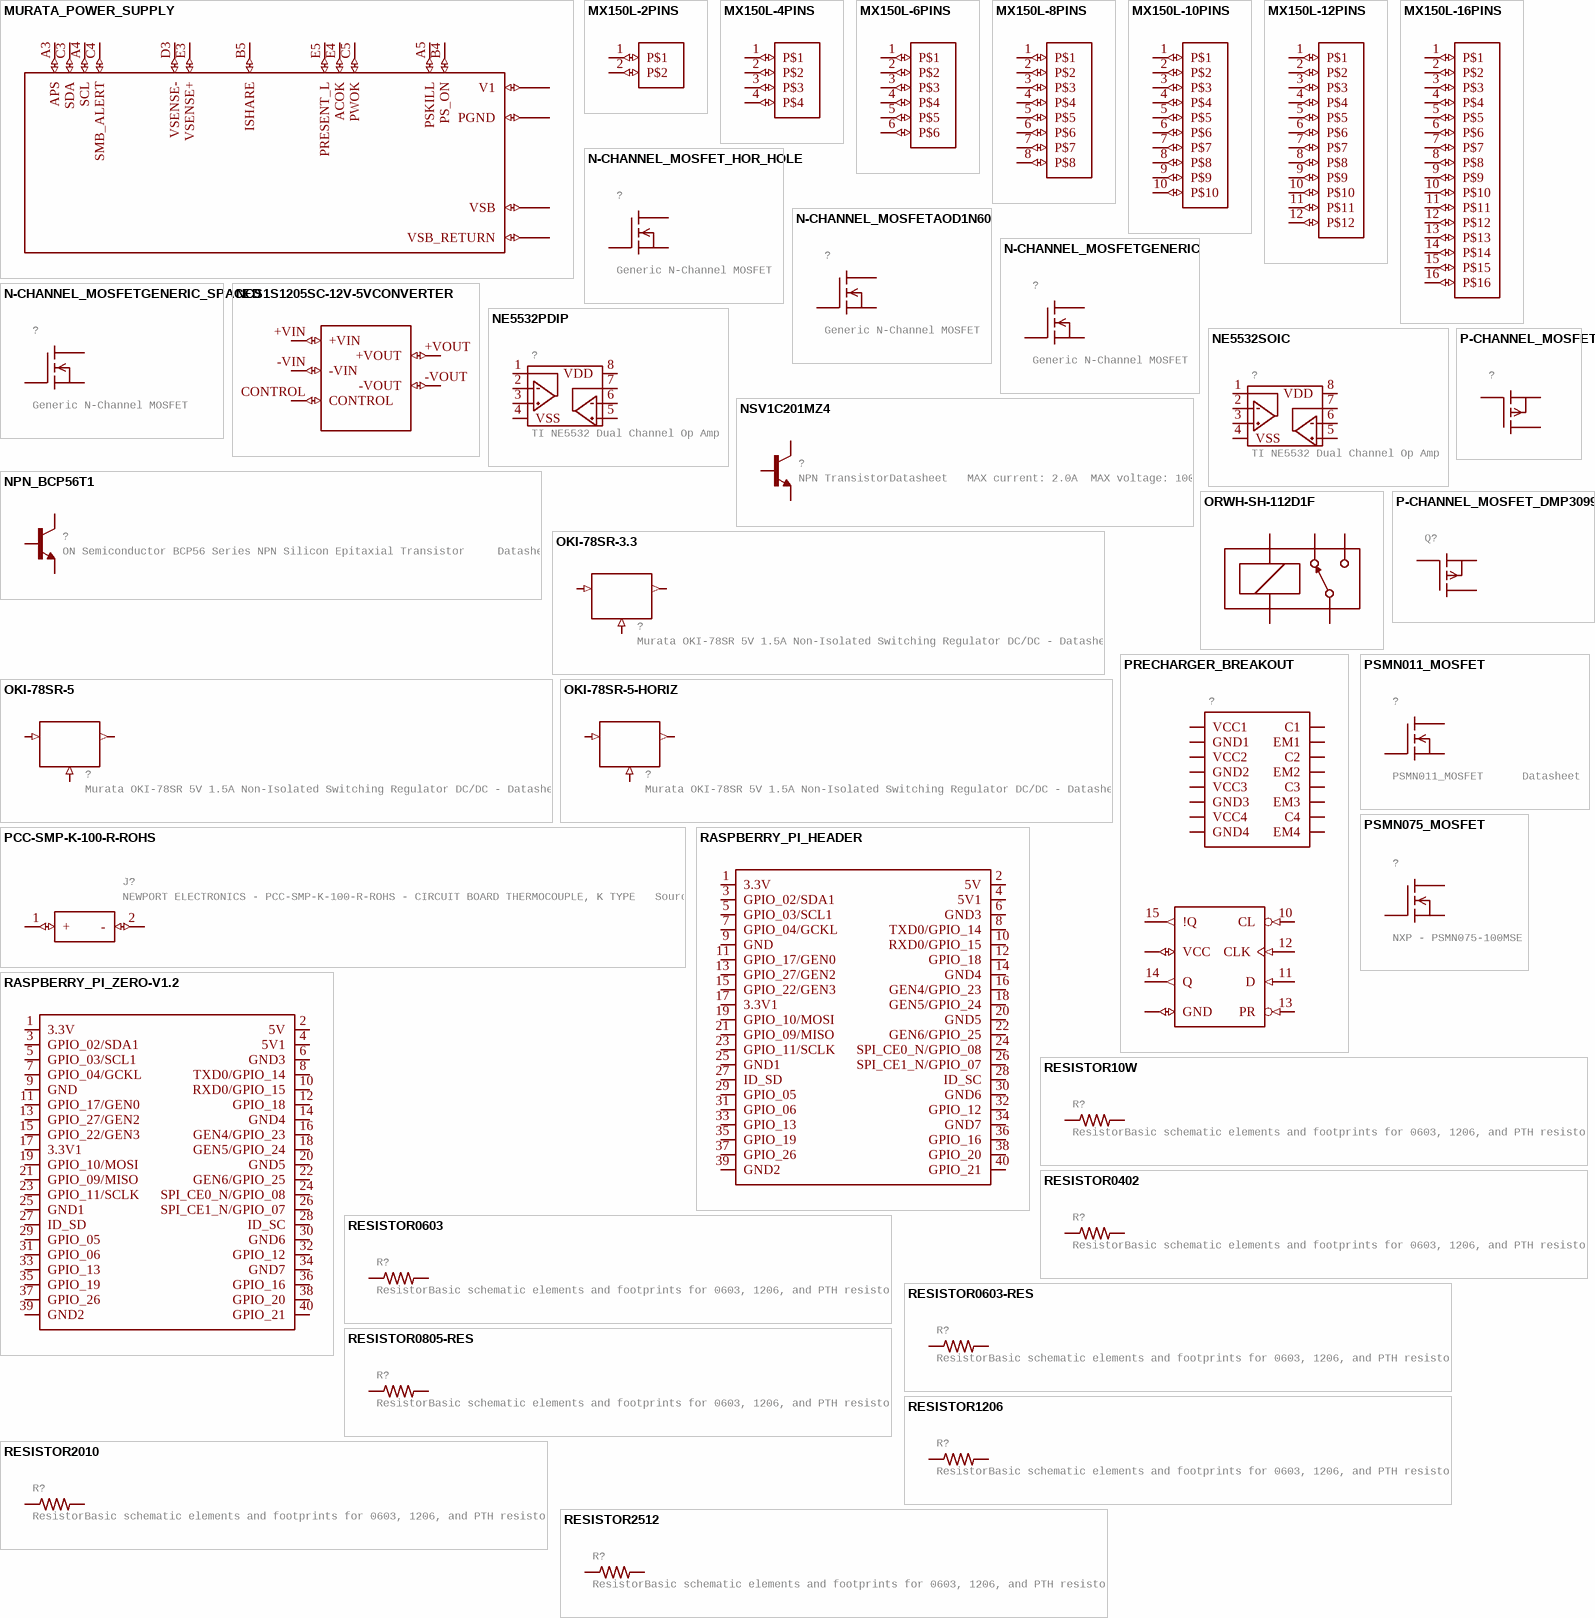
[diagram p18: symbols MURATA_POWER_SUPPLY to RESISTOR2512]

## MURATA_POWER_SUPPLY
designator ?
GateName_1: G$1; SymbolName_1: MURATA_POWER_SUPPLY; LibraryName: HyTechDevices; DeviceSetName: MURATA_POWER_SUPPLY; Package: MURATA_POWER_SUPPLY_CONNECTOR
footprint MURATA_POWER_SUPPLY_CONNECTOR
pins: A1 B1 C1 D1 E1 VSB (io), A2 B2 VSB_RETURN (io), A3 APS (io), A4 SCL (io), A5 PSKILL (io), B4 PS_ON (io), B5 ISHARE (io), C3 SDA (io), C4 SMB_ALERT (io), C5 PWOK (io), D3 VSENSE- (io), E3 VSENSE+ (io), E4 ACOK (io), E5 PRESENT_L (io), P$1A P$1B P$1C P$1D P$1E P$1F P$2A P$2B P$2C P$2D P$2E P$2F P$3A P$3B P$3C P$3D P$3E P$3F P$4A P$4B P$4C P$4D P$4E P$4F P$5A P$5B P$5C P$5D P$5E P$5F PGND (io), P$6A P$6B P$6C P$6D P$6E P$6F P$7A P$7B P$7C P$7D P$7E P$7F P$8A P$8B P$8C P$8D P$8E P$8F P$9A P$9B P$9C P$9D P$9E P$9F P$10A P$10B P$10C P$10D P$10E P$10F V1 (io)

## MX150L-2PINS
designator ?
GateName_1: G$1; SymbolName_1: MX150L-2PINS; LibraryName: HyTechDevices; DeviceSetName: MX150L-2PINS; Package: MX150L_VERTICAL-2
footprint MX150L_VERTICAL-2
pins: 1 P$1 (io), 2 P$2 (io)

## MX150L-4PINS
designator ?
GateName_1: G$1; SymbolName_1: MX150L-4PINS; LibraryName: HyTechDevices; DeviceSetName: MX150L-4PINS; Package: MX150L_VERTICAL-4
footprint MX150L_VERTICAL-4
pins: 1 P$1 (io), 2 P$2 (io), 3 P$3 (io), 4 P$4 (io)

## MX150L-6PINS
designator ?
GateName_1: G$1; SymbolName_1: MX150L-6PINS; LibraryName: HyTechDevices; DeviceSetName: MX150L-6PINS; Package: MX150L_VERTICAL-6
footprint MX150L_VERTICAL-6
pins: 1 P$1 (io), 2 P$2 (io), 3 P$3 (io), 4 P$4 (io), 5 P$5 (io), 6 P$6 (io)

## MX150L-8PINS
designator ?
GateName_1: G$1; SymbolName_1: MX150L-8PINS; LibraryName: HyTechDevices; DeviceSetName: MX150L-8PINS; Package: MX150L_VERTICAL-8
footprint MX150L_VERTICAL-8
pins: 1 P$1 (io), 2 P$2 (io), 3 P$3 (io), 4 P$4 (io), 5 P$5 (io), 6 P$6 (io), 7 P$7 (io), 8 P$8 (io)

## MX150L-10PINS
designator ?
GateName_1: G$1; SymbolName_1: MX150L-10PINS; LibraryName: HyTechDevices; DeviceSetName: MX150L-10PINS; Package: MX150L_VERTICAL-10
footprint MX150L_VERTICAL-10
pins: 1 P$1 (io), 2 P$2 (io), 3 P$3 (io), 4 P$4 (io), 5 P$5 (io), 6 P$6 (io), 7 P$7 (io), 8 P$8 (io), 9 P$9 (io), 10 P$10 (io)

## MX150L-12PINS
designator ?
GateName_1: G$1; SymbolName_1: MX150L-12PINS; LibraryName: HyTechDevices; DeviceSetName: MX150L-12PINS; Package: MX150L_VERTICAL-12
footprint MX150L_VERTICAL-12
pins: 1 P$1 (io), 2 P$2 (io), 3 P$3 (io), 4 P$4 (io), 5 P$5 (io), 6 P$6 (io), 7 P$7 (io), 8 P$8 (io), 9 P$9 (io), 10 P$10 (io), 11 P$11 (io), 12 P$12 (io)

## MX150L-16PINS
designator ?
GateName_1: G$1; SymbolName_1: MX150L-16PINS; LibraryName: HyTechDevices; DeviceSetName: MX150L-16PINS; Package: MX150L-VERTICAL-16
footprint MX150L-VERTICAL-16
pins: 1 P$1 (io), 2 P$2 (io), 3 P$3 (io), 4 P$4 (io), 5 P$5 (io), 6 P$6 (io), 7 P$7 (io), 8 P$8 (io), 9 P$9 (io), 10 P$10 (io), 11 P$11 (io), 12 P$12 (io), 13 P$13 (io), 14 P$14 (io), 15 P$15 (io), 16 P$16 (io)

## N-CHANNEL_MOSFET_HOR_HOLE
designator ?, comment Generic N-Channel MOSFET
GateName_1: G$1; SymbolName_1: N-CHANNEL_MOSFET; DeviceName: _HOR_HOLE; LibraryName: HyTechDevices; DeviceSetName: N-CHANNEL_MOSFET; Package: TO-220-H-HOLE
footprint TO-220-H-HOLE
pins: 1 G, 2 D, 3 S

## N-CHANNEL_MOSFETAOD1N60
designator ?, comment Generic N-Channel MOSFET
GateName_1: G$1; SymbolName_1: N-CHANNEL_MOSFET; DeviceName: AOD1N60; LibraryName: HyTechDevices; DeviceSetName: N-CHANNEL_MOSFET; Package: TO-252
footprint TO-252
pins: 1 G, 2(TAB) D, 3 S

## N-CHANNEL_MOSFETGENERIC
designator ?, comment Generic N-Channel MOSFET
GateName_1: G$1; SymbolName_1: N-CHANNEL_MOSFET; _EXTERNAL_: 1; DeviceName: GENERIC; LibraryName: HyTechDevices; DeviceSetName: N-CHANNEL_MOSFET; Package: TO-220-SINK
footprint TO-220-SINK
pins: 1 G, 2 D, 3 S

## N-CHANNEL_MOSFETGENERIC_SPACED
designator ?, comment Generic N-Channel MOSFET
GateName_1: G$1; SymbolName_1: N-CHANNEL_MOSFET; DeviceName: GENERIC_SPACED; LibraryName: HyTechDevices; DeviceSetName: N-CHANNEL_MOSFET; Package: TO-220-SINK-SPACED
footprint TO-220-SINK-SPACED
pins: 1 G, 2 D, 3 S

## NCS1S1205SC-12V-5VCONVERTER
designator ?
GateName_1: G$1; SymbolName_1: DCDC-CONVERTER; DeviceSetName: NCS1S1205SC-12V-5VCONVERTER; LibraryName: HyTechDevices; Package: DCDC-CONVERTER
footprint DCDC-CONVERTER
pins: +VIN (io), +VOUT (io), -VIN (io), -VOUT (io), CONTROL (io)

## NE5532PDIP
designator ?, comment TI NE5532 Dual Channel Op Amp
GateName_1: G$1; SymbolName_1: OPAMP_2_CHANNEL; DeviceName: PDIP; LibraryName: HyTechDevices; DeviceSetName: NE5532; Package: DIL08
footprint DIL08
pins: 1 VOUTA, 2 VINA-, 3 VINA+, 4 VSS, 5 VINB+, 6 VINB-, 7 VOUTB, 8 VDD

## NE5532SOIC
designator ?, comment TI NE5532 Dual Channel Op Amp
GateName_1: G$1; SymbolName_1: OPAMP_2_CHANNEL; DeviceName: SOIC; LibraryName: HyTechDevices; DeviceSetName: NE5532; Package: SOIC-08
footprint SOIC-08
pins: 1 VOUTA, 2 VINA-, 3 VINA+, 4 VSS, 5 VINB+, 6 VINB-, 7 VOUTB, 8 VDD

## NPN_BCP56T1
designator ?, comment ON Semiconductor BCP56 Series NPN Silicon Epitaxial Transistor     Datasheet
GateName_1: G$1; SymbolName_1: NPN_BJT; DeviceSetName: NPN_BCP56T1; LibraryName: HyTechDevices; Package: SOT223
footprint SOT223
pins: 1 BASE, 2 4 COLLECTOR, 3 EMITTER

## NSV1C201MZ4
designator ?, comment NPN TransistorDatasheet   MAX current: 2.0A  MAX voltage: 100V
GateName_1: G$1; SymbolName_1: NPN_BJT; DeviceSetName: NSV1C201MZ4; LibraryName: HyTechDevices; Package: SOT223
footprint SOT223
pins: 1 BASE, 2 4 COLLECTOR, 3 EMITTER

## OKI-78SR-3.3
designator ?, comment Murata OKI-78SR 5V 1.5A Non-Isolated Switching Regulator DC/DC - Datasheet
GateName_1: G$1; SymbolName_1: VOLTAGE_REGULATOR; DeviceSetName: OKI-78SR-3.3; LibraryName: HyTechDevices; Package: OKI-78SR
footprint OKI-78SR
pins: 1 IN (in), 2 GND (in), 3 OUT (out)

## OKI-78SR-5
designator ?, comment Murata OKI-78SR 5V 1.5A Non-Isolated Switching Regulator DC/DC - Datasheet
GateName_1: G$1; SymbolName_1: VOLTAGE_REGULATOR; DeviceSetName: OKI-78SR-5; LibraryName: HyTechDevices; Package: OKI-78SR
footprint OKI-78SR
pins: 1 IN (in), 2 GND (in), 3 OUT (out)

## OKI-78SR-5-HORIZ
designator ?, comment Murata OKI-78SR 5V 1.5A Non-Isolated Switching Regulator DC/DC - Datasheet
GateName_1: G$1; SymbolName_1: VOLTAGE_REGULATOR; DeviceName: -HORIZ; DeviceSetName: OKI-78SR-5; LibraryName: HyTechDevices; Package: OKI-78SR-H
footprint OKI-78SR-H
pins: 1 IN (in), 2 GND (in), 3 OUT (out)

## ORWH-SH-112D1F
designator ?, comment TE SPST relay  (value not drawn)
GateName_1: G$1; SymbolName_1: ZF112; DeviceSetName: ORWH-SH-112D1F; LibraryName: HyTechDevices; Package: ZF112
footprint ZF112
pins: 1 COIL+ (io), 2 COIL- (io), O (io), P (io), S (io)

## P-CHANNEL_MOSFET
designator ?
GateName_1: G$1; SymbolName_1: P-CHANNEL_MOSFET; _EXTERNAL_: 1; LibraryName: HyTechDevices; DeviceSetName: P-CHANNEL_MOSFET
pins: ?1 S, ?2 D, ?3 G

## P-CHANNEL_MOSFET_DMP3099L-7
designator Q?, comment Diodes Incorporated P-Channel Enhancement Mode MOSFET     Datasheet  (value not drawn)
GateName_1: G$1; SymbolName_1: P-CHANNEL_MOSFET; DeviceSetName: P-CHANNEL_MOSFET_DMP3099L-7; LibraryName: HyTechDevices; Package: SOT23
footprint SOT23
pins: 1 G, 2 S, 3 D

## PCC-SMP-K-100-R-ROHS
designator J?, comment NEWPORT ELECTRONICS - PCC-SMP-K-100-R-ROHS - CIRCUIT BOARD THERMOCOUPLE, K TYPE   Source:  Datasheet
GateName_1: G$1; SymbolName_1: PCC-SMP-K-100-R-ROHS; LibraryName: HyTechDevices; DeviceSetName: PCC-SMP-K-100-R-ROHS; Package: PCC-SMP; DESCRIPTION: NEWPORT ELECTRONICS - PCC-SMP-K-100-R-ROHS - CIRCUIT BOARD THERMOCOUPLE, K TYPE; HEIGHT: mm; MANUFACTURER_NAME: NEWPORT ELECTRONICS; MANUFACTURER_PART_NUMBER: PCC-SMP-K-100-R-ROHS
footprint PCC-SMP
pins: 1 + (io), 2 - (io)

## PRECHARGER_BREAKOUT
designator ?
GateName_1: G$1; SymbolName_1: PRECHARGER_BREAKOUT; LibraryName: HyTechDevices; DeviceSetName: PRECHARGER_BREAKOUT; Package: PRECHARGER_BREAKOUT
footprint PRECHARGER_BREAKOUT
pins: 1 VCC1, 2 GND1, 3 VCC2, 4 GND2, 5 VCC3, 6 GND3, 7 VCC4, 8 GND4, 10 CL (in), 11 D (in), 12 CLK (in), 13 PR (in), 14 Q (out), 15 !Q (out), 16 GND (io), 23 VCC (io), 25 EM4, 26 C4, 27 EM3, 28 C3, 29 EM2, 30 C2, 31 EM1, 32 C1

## PSMN011_MOSFET
designator ?, comment PSMN011_MOSFET      Datasheet
GateName_1: G$1; SymbolName_1: N-CHANNEL_MOSFET; LibraryName: HyTechDevices; DeviceSetName: PSMN011_MOSFET; Package: SOT669
footprint SOT669
pins: 1 2 3 S, 4 G, MB MB2 D

## PSMN075_MOSFET
designator ?, comment NXP - PSMN075-100MSE     Link to data sheet: http://www.mouser.com/ds/2/302/PSMN075-100MSE-842937.pdf
GateName_1: G$1; SymbolName_1: N-CHANNEL_MOSFET; DeviceSetName: PSMN075_MOSFET; LibraryName: HyTechDevices; Package: LFPAK33
footprint LFPAK33
pins: 1 2 3 S, 4 G, MB MB1 MB2 MB3 MB4 D

## RASPBERRY_PI_HEADER
designator ?, comment Based on source: peter6960 on raspberrypi.org  (value not drawn)
GateName_1: G$1; SymbolName_1: RASPBERRY_PI_HEADER_40; DeviceSetName: RASPBERRY_PI_HEADER; LibraryName: HyTechDevices; Package: RASPBERRY_PI_HEADER
footprint RASPBERRY_PI_HEADER
pins: 1 3.3V (power), 2 5V (power), 3 GPIO_02/SDA1 (io), 4 5V1 (power), 5 GPIO_03/SCL1 (io), 6 GND3 (power), 7 GPIO_04/GCKL (io), 8 TXD0/GPIO_14 (io), 9 GND (power), 10 RXD0/GPIO_15 (io), 11 GPIO_17/GEN0 (io), 12 GPIO_18 (io), 13 GPIO_27/GEN2 (io), 14 GND4 (power), 15 GPIO_22/GEN3 (io), 16 GEN4/GPIO_23 (io), 17 3.3V1 (power), 18 GEN5/GPIO_24 (io), 19 GPIO_10/MOSI (io), 20 GND5 (power), 21 GPIO_09/MISO (io), 22 GEN6/GPIO_25 (io), 23 GPIO_11/SCLK (io), 24 SPI_CE0_N/GPIO_08 (io), 25 GND1 (power), 26 SPI_CE1_N/GPIO_07 (io), 27 ID_SD (io), 28 ID_SC (io), 29 GPIO_05 (io), 30 GND6 (power), 31 GPIO_06 (io), 32 GPIO_12 (io), 33 GPIO_13 (io), 34 GND7 (power), 35 GPIO_19 (io), 36 GPIO_16 (io), 37 GPIO_26 (io), 38 GPIO_20 (io), 39 GND2 (power), 40 GPIO_21 (io)

## RASPBERRY_PI_ZERO-V1.2
designator ?, comment Based on source: peter6960 on raspberrypi.org  (value not drawn)
GateName_1: G$1; SymbolName_1: RASPBERRY_PI_HEADER_40; DeviceSetName: RASPBERRY_PI_ZERO-V1.2; LibraryName: HyTechDevices; Package: RASPBERRY_PI_ZERO-V1.2
footprint RASPBERRY_PI_ZERO-V1.2
pins: 1 3.3V (power), 2 5V (power), 3 GPIO_02/SDA1 (io), 4 5V1 (power), 5 GPIO_03/SCL1 (io), 6 GND3 (power), 7 GPIO_04/GCKL (io), 8 TXD0/GPIO_14 (io), 9 GND (power), 10 RXD0/GPIO_15 (io), 11 GPIO_17/GEN0 (io), 12 GPIO_18 (io), 13 GPIO_27/GEN2 (io), 14 GND4 (power), 15 GPIO_22/GEN3 (io), 16 GEN4/GPIO_23 (io), 17 3.3V1 (power), 18 GEN5/GPIO_24 (io), 19 GPIO_10/MOSI (io), 20 GND5 (power), 21 GPIO_09/MISO (io), 22 GEN6/GPIO_25 (io), 23 GPIO_11/SCLK (io), 24 SPI_CE0_N/GPIO_08 (io), 25 GND1 (power), 26 SPI_CE1_N/GPIO_07 (io), 27 ID_SD (io), 28 ID_SC (io), 29 GPIO_05 (io), 30 GND6 (power), 31 GPIO_06 (io), 32 GPIO_12 (io), 33 GPIO_13 (io), 34 GND7 (power), 35 GPIO_19 (io), 36 GPIO_16 (io), 37 GPIO_26 (io), 38 GPIO_20 (io), 39 GND2 (power), 40 GPIO_21 (io)

## RESISTOR10W
designator R?, comment ResistorBasic schematic elements and footprints for 0603, 1206, and PTH resistors.
GateName_1: G$1; DeviceName: 10W; SymbolName_1: RESISTOR; LibraryName: HyTechDevices; DeviceSetName: RESISTOR; Package: 10W_RESISTOR_VISHAY
footprint 10W_RESISTOR_VISHAY
pins: 1, 2

## RESISTOR0402
designator R?, comment ResistorBasic schematic elements and footprints for 0603, 1206, and PTH resistors.
GateName_1: G$1; DeviceName: 0402; SymbolName_1: RESISTOR; LibraryName: HyTechDevices; DeviceSetName: RESISTOR; Package: 0402-RES
footprint 0402-RES
pins: 1, 2

## RESISTOR0603
designator R?, comment ResistorBasic schematic elements and footprints for 0603, 1206, and PTH resistors.
GateName_1: G$1; DeviceName: 0603; SymbolName_1: RESISTOR; LibraryName: HyTechDevices; DeviceSetName: RESISTOR; Package: 0603-RES
footprint 0603-RES
pins: 1, 2

## RESISTOR0603-RES
designator R?, comment ResistorBasic schematic elements and footprints for 0603, 1206, and PTH resistors.
GateName_1: G$1; DeviceName: 0603-RES; SymbolName_1: RESISTOR; LibraryName: HyTechDevices; DeviceSetName: RESISTOR; Package: 0603-RES
footprint 0603-RES
pins: 1, 2

## RESISTOR0805-RES
designator R?, comment ResistorBasic schematic elements and footprints for 0603, 1206, and PTH resistors.
GateName_1: G$1; DeviceName: 0805-RES; SymbolName_1: RESISTOR; LibraryName: HyTechDevices; DeviceSetName: RESISTOR; Package: 0805
footprint 0805
pins: 1, 2

## RESISTOR1206
designator R?, comment ResistorBasic schematic elements and footprints for 0603, 1206, and PTH resistors.
GateName_1: G$1; DeviceName: 1206; SymbolName_1: RESISTOR; LibraryName: HyTechDevices; DeviceSetName: RESISTOR; Package: 1206
footprint 1206
pins: 1, 2

## RESISTOR2010
designator R?, comment ResistorBasic schematic elements and footprints for 0603, 1206, and PTH resistors.
GateName_1: G$1; DeviceName: 2010; SymbolName_1: RESISTOR; LibraryName: HyTechDevices; DeviceSetName: RESISTOR; Package: R2010
footprint R2010
pins: 1, 2

## RESISTOR2512
designator R?, comment ResistorBasic schematic elements and footprints for 0603, 1206, and PTH resistors.
GateName_1: G$1; DeviceName: 2512; SymbolName_1: RESISTOR; LibraryName: HyTechDevices; DeviceSetName: RESISTOR; Package: R2512
footprint R2512
pins: 1, 2

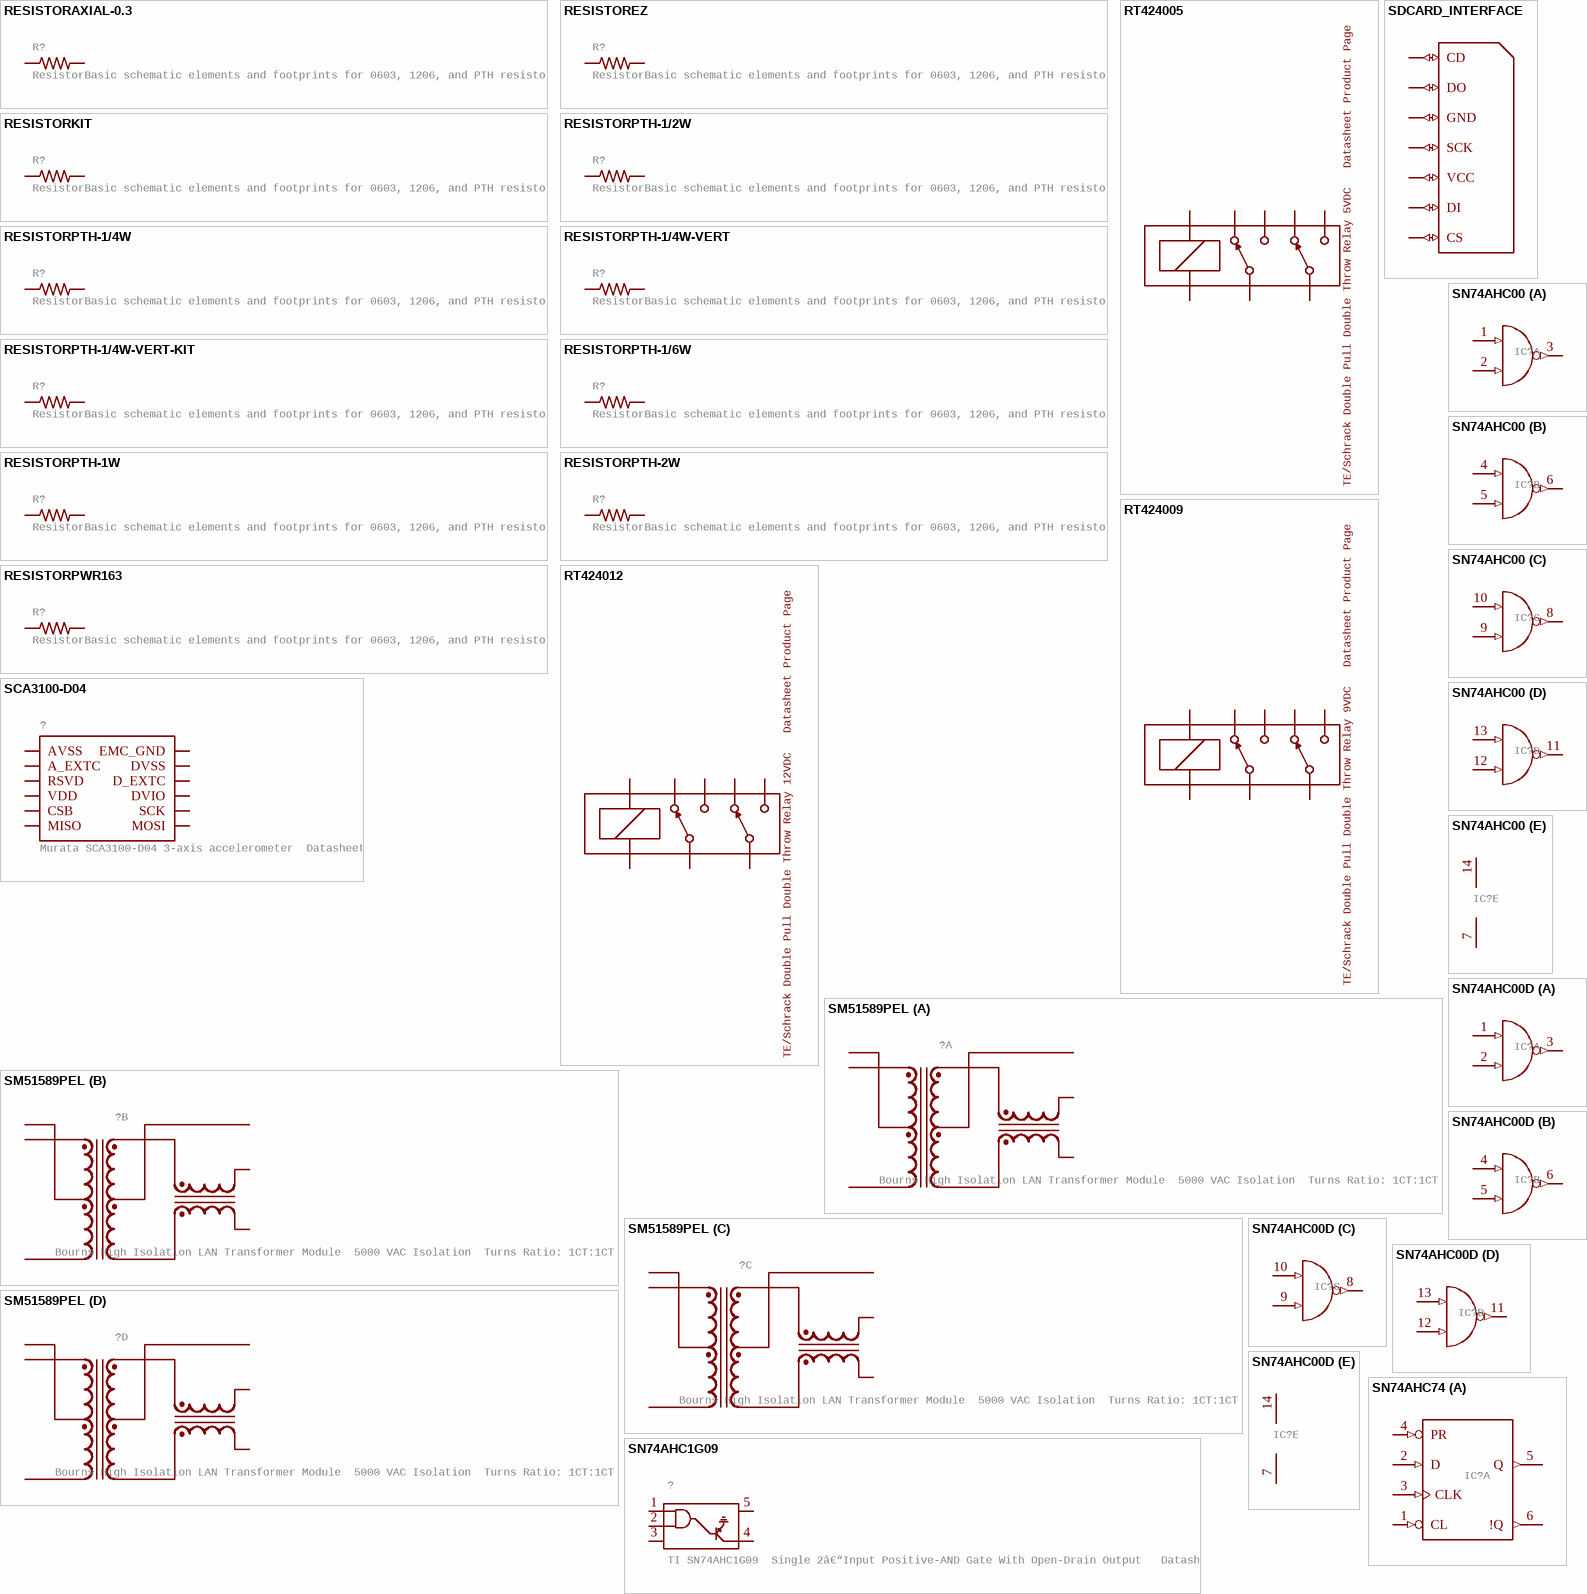
[diagram p19: symbols RESISTORAXIAL-0.3 to SN74AHC74]

## RESISTORAXIAL-0.3
designator R?, comment ResistorBasic schematic elements and footprints for 0603, 1206, and PTH resistors.
GateName_1: G$1; DeviceName: AXIAL-0.3; SymbolName_1: RESISTOR; LibraryName: HyTechDevices; DeviceSetName: RESISTOR; Package: AXIAL-0.3
footprint AXIAL-0.3
pins: P$1 1, P$2 2

## RESISTOREZ
designator R?, comment ResistorBasic schematic elements and footprints for 0603, 1206, and PTH resistors.
GateName_1: G$1; DeviceName: EZ; SymbolName_1: RESISTOR; LibraryName: HyTechDevices; DeviceSetName: RESISTOR; Package: AXIAL-0.3EZ
footprint AXIAL-0.3EZ
pins: P$1 1, P$2 2

## RESISTORKIT
designator R?, comment ResistorBasic schematic elements and footprints for 0603, 1206, and PTH resistors.
GateName_1: G$1; DeviceName: KIT; SymbolName_1: RESISTOR; LibraryName: HyTechDevices; DeviceSetName: RESISTOR; Package: AXIAL-0.3-KIT
footprint AXIAL-0.3-KIT
pins: P$1 1, P$2 2

## RESISTORPTH-1/2W
designator R?, comment ResistorBasic schematic elements and footprints for 0603, 1206, and PTH resistors.
GateName_1: G$1; DeviceName: PTH-1/2W; SymbolName_1: RESISTOR; LibraryName: HyTechDevices; DeviceSetName: RESISTOR; Package: AXIAL-0.5
footprint AXIAL-0.5
pins: P$1 1, P$2 2

## RESISTORPTH-1/4W
designator R?, comment ResistorBasic schematic elements and footprints for 0603, 1206, and PTH resistors.
GateName_1: G$1; DeviceName: PTH-1/4W; SymbolName_1: RESISTOR; LibraryName: HyTechDevices; DeviceSetName: RESISTOR; Package: AXIAL-0.4
footprint AXIAL-0.4
pins: P$1 1, P$2 2

## RESISTORPTH-1/4W-VERT
designator R?, comment ResistorBasic schematic elements and footprints for 0603, 1206, and PTH resistors.
GateName_1: G$1; DeviceName: PTH-1/4W-VERT; SymbolName_1: RESISTOR; LibraryName: HyTechDevices; DeviceSetName: RESISTOR; Package: AXIAL-0.1
footprint AXIAL-0.1
pins: P$1 1, P$2 2

## RESISTORPTH-1/4W-VERT-KIT
designator R?, comment ResistorBasic schematic elements and footprints for 0603, 1206, and PTH resistors.
GateName_1: G$1; DeviceName: PTH-1/4W-VERT-KIT; SymbolName_1: RESISTOR; LibraryName: HyTechDevices; DeviceSetName: RESISTOR; Package: AXIAL-0.1EZ
footprint AXIAL-0.1EZ
pins: P$1 1, P$2 2

## RESISTORPTH-1/6W
designator R?, comment ResistorBasic schematic elements and footprints for 0603, 1206, and PTH resistors.
GateName_1: G$1; DeviceName: PTH-1/6W; SymbolName_1: RESISTOR; LibraryName: HyTechDevices; DeviceSetName: RESISTOR; Package: 1/6W-RES
footprint 1/6W-RES
pins: 1, 2

## RESISTORPTH-1W
designator R?, comment ResistorBasic schematic elements and footprints for 0603, 1206, and PTH resistors.
GateName_1: G$1; DeviceName: PTH-1W; SymbolName_1: RESISTOR; LibraryName: HyTechDevices; DeviceSetName: RESISTOR; Package: AXIAL-0.6
footprint AXIAL-0.6
pins: P$1 1, P$2 2